# EAGLE library part TRAFO-E10X2 (library TABOR K1)
sietove trafo EE15- jeden primar- dva sekundare
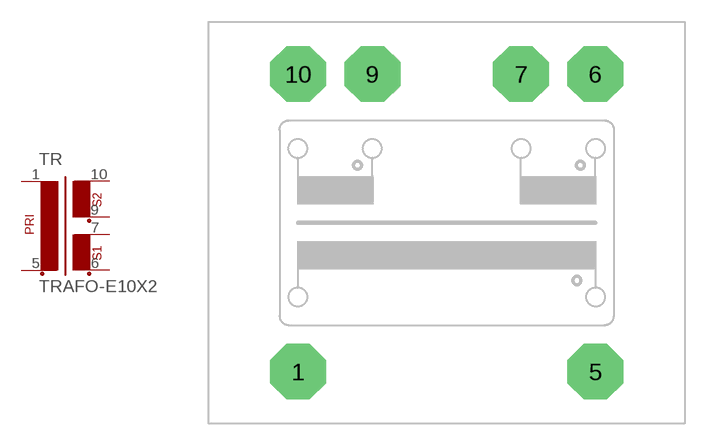
[diagram p17: symbol with the pads of TRAFO-E10X2; footprint TRAFO-E10X2]

Designator prefix TR

## TRAFO-E10X2S  [TRAFO-E10X2]
1  1  pas
5  5  pas
6  6  pas
7  7  pas
9  9  pas
10  10  pas

## Footprint TRAFO-E10X2 (pad centres in mm)
Transformátor zaliaty do DPS - 2,6W: 1x primár, 2x sekundár, plechy EE10, rozmer 27,5 x 32,5 mm. diera s pokovenim = 1,2 mm vrtanie = 1,4 mm Jeden primar - dva sekundare - rozmer EE15
drill 1.422 pad 3.81 octagon: 1 -10.16,-10.16; 5 10.16,-10.16; 6 10.16,10.16; 7 5.08,10.16; 9 -5.08,10.16; 10 -10.16,10.16